# Altium integrated library Lattice Semiconductor ispMACH 4000B.IntLib: 180 symbols (part 3 of 28)
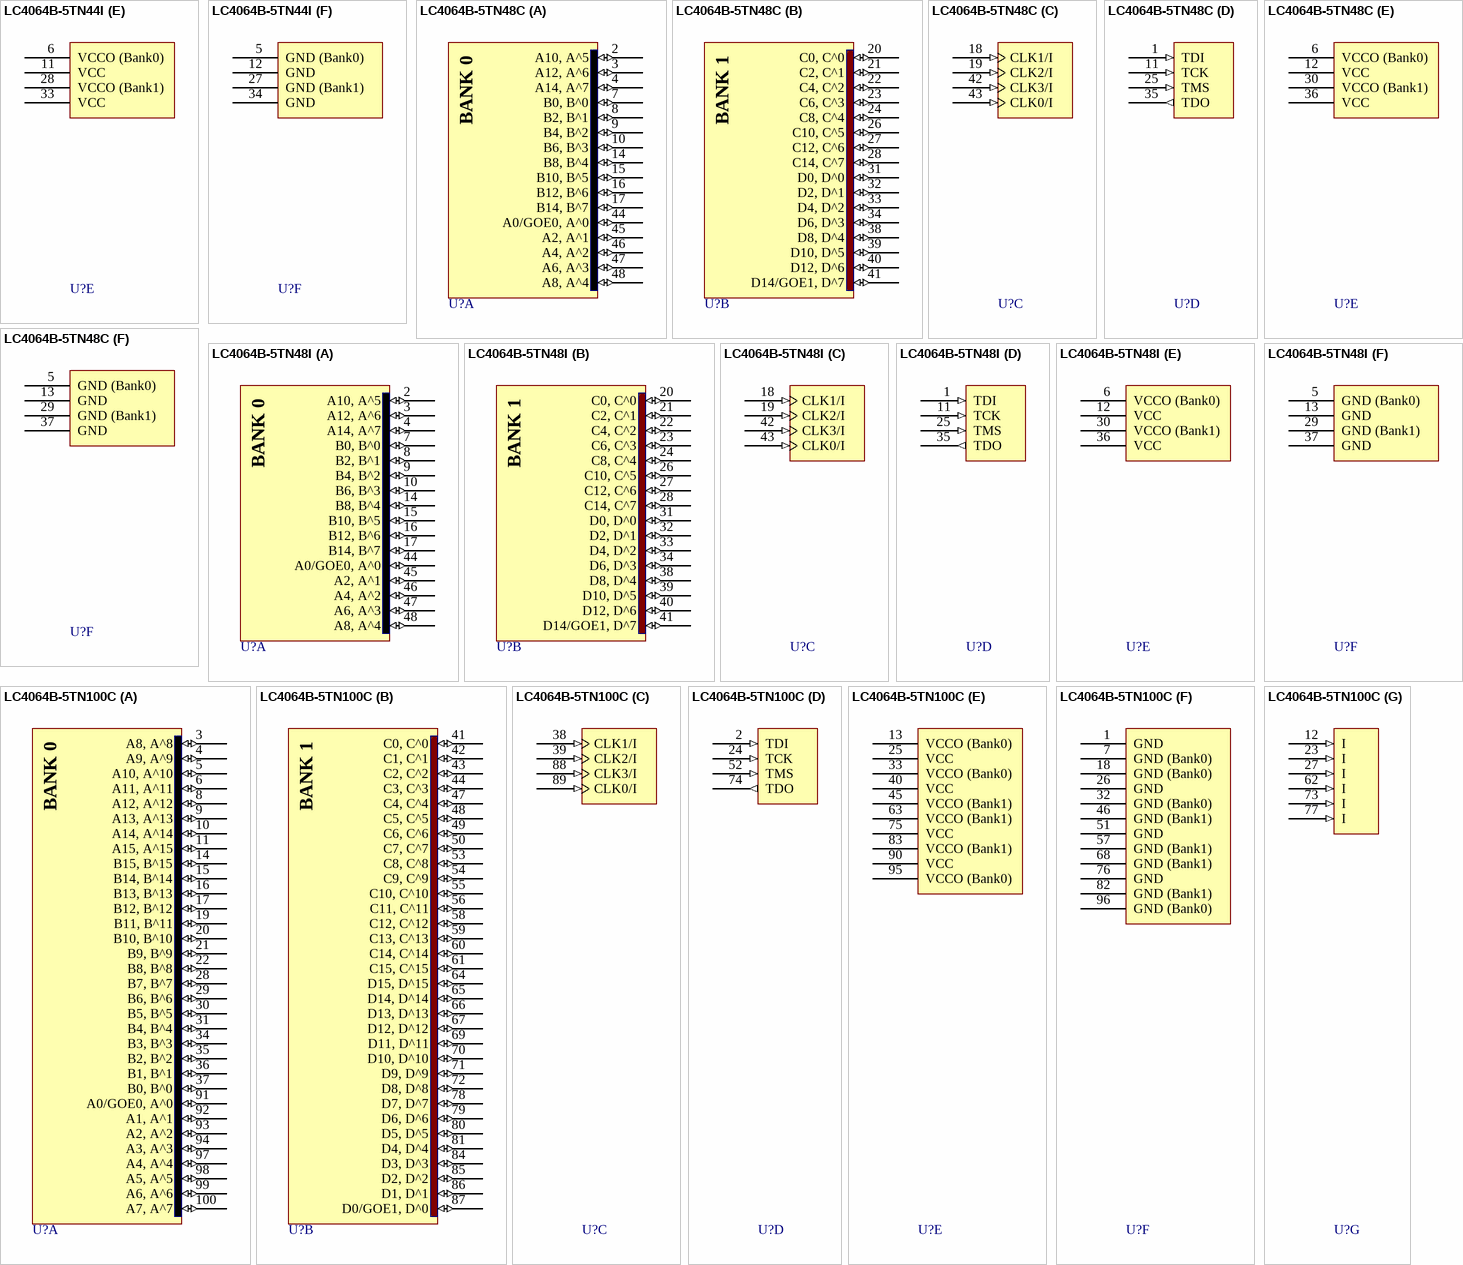
[diagram p106: symbols LC4064B-5TN44I to LC4064B-5TN100C]

## LC4064B-5TN44I
designator U?
ispMACH 4064 SuperFAST High Density PLD, 2.5 V, 30 User I/Os, 44-Pin TQFP, 5.0 ns, Industrial Grade, Pb-Free; DatasheetVersion: ver22.3, Mar-2007; PackageVersion: ver01.2 Feb-2007; PackageReference: TQFP44(1mm); PackageDescription: 44-Pin Thin Quad Flat Pack 1.0 mm Thick (TQFP44); ComponentLink1Description: Manufacturer URL; ComponentLink1URL: http://www.latticesemi.com/; ComponentLink2Description: Datasheet; ComponentLink2URL: http://www.latticesemi.com/dynamic/view_document.cfm?document_id=3646
footprint TQFP44(1mm)_N (Thin QFP, 44-Leads, Body 10x10mm, Pitch 0.8mm, IPC Medium Density)
footprint TQFP44(1mm)_L (Thin QFP, 44-Leads, Body 10x10mm, Pitch 0.8mm, IPC High Density)
footprint TQFP44(1mm)_M (Thin QFP, 44-Leads, Body 10x10mm, Pitch 0.8mm, IPC Low Density)
part A pins: 2 A10, A^5 (io) "General purpose I/O.", 3 A12, A^6 (io) "General purpose I/O.", 4 A14, A^7 (io) "General purpose I/O.", 7 B0, B^0 (io) "General purpose I/O.", 8 B2, B^1 (io) "General purpose I/O.", 9 B4, B^2 (io) "General purpose I/O.", 13 B8, B^4 (io) "General purpose I/O.", 14 B10, B^5 (io) "General purpose I/O.", 15 B12, B^6 (io) "General purpose I/O.", 16 B14, B^7 (io) "General purpose I/O.", 40 A0/GOE0, A^0 (io) "Either Global Output Enable Input or general I/O.", 41 A2, A^1 (io) "General purpose I/O.", 42 A4, A^2 (io) "General purpose I/O.", 43 A6, A^3 (io) "General purpose I/O.", 44 A8, A^4 (io) "General purpose I/O."
part B pins: 18 C0, C^0 (io) "General purpose I/O.", 19 C2, C^1 (io) "General purpose I/O.", 20 C4, C^2 (io) "General purpose I/O.", 21 C6, C^3 (io) "General purpose I/O.", 22 C8, C^4 (io) "General purpose I/O.", 24 C10, C^5 (io) "General purpose I/O.", 25 C12, C^6 (io) "General purpose I/O.", 26 C14, C^7 (io) "General purpose I/O.", 29 D0, D^0 (io) "General purpose I/O.", 30 D2, D^1 (io) "General purpose I/O.", 31 D4, D^2 (io) "General purpose I/O.", 35 D8, D^4 (io) "General purpose I/O.", 36 D10, D^5 (io) "General purpose I/O.", 37 D12, D^6 (io) "General purpose I/O.", 38 D14/GOE1, D^7 (io) "Either Global Output Enable Input or general I/O."
part C pins: 17 CLK2/I (in) "Either CLK input or input.", 39 CLK0/I (in) "Either CLK input or input."
part D pins: 1 TDI (in) "Test Data Input. Loads data into device using 1149.1 state machine.", 10 TCK (in) "Test Clock Input for 1149.1 state machine.", 23 TMS (in) "Test Mode Select Input to control 1149.1 state machine.", 32 TDO (out) "Test Data Output. Shifts data out of device using 1149.1."
part E pins: 6 VCCO (Bank0) (power) "Power supply pin for I/O bank.", 11 VCC (power) "Power supply for logic core and JTAG port.", 28 VCCO (Bank1) (power) "Power supply pin for I/O bank.", 33 VCC (power) "Power supply for logic core and JTAG port."
part F pins: 5 GND (Bank0) (power) "I/O Ground", 12 GND (power) "Ground", 27 GND (Bank1) (power) "I/O Ground", 34 GND (power) "Ground"
part A text: BANK 0
part B text: BANK 1

## LC4064B-5TN48C
designator U?
ispMACH 4064 SuperFAST High Density PLD, 2.5 V, 32 User I/Os, 48-Pin TQFP, 5.0 ns, Commercial Grade, Pb-Free; DatasheetVersion: ver22.3, Mar-2007; PackageVersion: ver02.6, Nov-2010; PackageReference: TQFP48(1mm); PackageDescription: 48-Pin Thin Quad Flat Pack 1.0 mm Thick (TQFP48); ComponentLink1Description: Manufacturer URL; ComponentLink1URL: http://www.latticesemi.com/; ComponentLink2Description: Datasheet; ComponentLink2URL: http://www.latticesemi.com/dynamic/view_document.cfm?document_id=3646
footprint TQFP48(1mm)_N (Thin QFP, 48-Leads, Body 7x7mm, Pitch 0.5mm, IPC Medium Density)
footprint TQFP48(1mm)_L (Thin QFP, 48-Leads, Body 7x7mm, Pitch 0.5mm, IPC High Density)
footprint TQFP48(1mm)_M (Thin QFP, 48-Leads, Body 7x7mm, Pitch 0.5mm, IPC Low Density)
part A pins: 2 A10, A^5 (io) "General purpose I/O.", 3 A12, A^6 (io) "General purpose I/O.", 4 A14, A^7 (io) "General purpose I/O.", 7 B0, B^0 (io) "General purpose I/O.", 8 B2, B^1 (io) "General purpose I/O.", 9 B4, B^2 (io) "General purpose I/O.", 10 B6, B^3 (io) "General purpose I/O.", 14 B8, B^4 (io) "General purpose I/O.", 15 B10, B^5 (io) "General purpose I/O.", 16 B12, B^6 (io) "General purpose I/O.", 17 B14, B^7 (io) "General purpose I/O.", 44 A0/GOE0, A^0 (io) "Either Global Output Enable Input or general I/O.", 45 A2, A^1 (io) "General purpose I/O.", 46 A4, A^2 (io) "General purpose I/O.", 47 A6, A^3 (io) "General purpose I/O.", 48 A8, A^4 (io) "General purpose I/O."
part B pins: 20 C0, C^0 (io) "General purpose I/O.", 21 C2, C^1 (io) "General purpose I/O.", 22 C4, C^2 (io) "General purpose I/O.", 23 C6, C^3 (io) "General purpose I/O.", 24 C8, C^4 (io) "General purpose I/O.", 26 C10, C^5 (io) "General purpose I/O.", 27 C12, C^6 (io) "General purpose I/O.", 28 C14, C^7 (io) "General purpose I/O.", 31 D0, D^0 (io) "General purpose I/O.", 32 D2, D^1 (io) "General purpose I/O.", 33 D4, D^2 (io) "General purpose I/O.", 34 D6, D^3 (io) "General purpose I/O.", 38 D8, D^4 (io) "General purpose I/O.", 39 D10, D^5 (io) "General purpose I/O.", 40 D12, D^6 (io) "General purpose I/O.", 41 D14/GOE1, D^7 (io) "Either Global Output Enable Input or general I/O."
part C pins: 18 CLK1/I (in) "Either CLK input or input.", 19 CLK2/I (in) "Either CLK input or input.", 42 CLK3/I (in) "Either CLK input or input.", 43 CLK0/I (in) "Either CLK input or input."
part D pins: 1 TDI (in) "Test Data Input. Loads data into device using 1149.1 state machine.", 11 TCK (in) "Test Clock Input for 1149.1 state machine.", 25 TMS (in) "Test Mode Select Input to control 1149.1 state machine.", 35 TDO (out) "Test Data Output. Shifts data out of device using 1149.1."
part E pins: 6 VCCO (Bank0) (power) "Power supply pin for I/O bank.", 12 VCC (power) "Power supply for logic core and JTAG port.", 30 VCCO (Bank1) (power) "Power supply pin for I/O bank.", 36 VCC (power) "Power supply for logic core and JTAG port."
part F pins: 5 GND (Bank0) (power) "I/O Ground", 13 GND (power) "Ground", 29 GND (Bank1) (power) "I/O Ground", 37 GND (power) "Ground"
part A text: BANK 0
part B text: BANK 1

## LC4064B-5TN48I
designator U?
ispMACH 4064 SuperFAST High Density PLD, 2.5 V, 32 User I/Os, 48-Pin TQFP, 5.0 ns, Industrial Grade, Pb-Free; DatasheetVersion: ver22.3, Mar-2007; PackageVersion: ver02.6, Nov-2010; PackageReference: TQFP48(1mm); PackageDescription: 48-Pin Thin Quad Flat Pack 1.0 mm Thick (TQFP48); ComponentLink1Description: Manufacturer URL; ComponentLink1URL: http://www.latticesemi.com/; ComponentLink2Description: Datasheet; ComponentLink2URL: http://www.latticesemi.com/dynamic/view_document.cfm?document_id=3646
footprint TQFP48(1mm)_N (Thin QFP, 48-Leads, Body 7x7mm, Pitch 0.5mm, IPC Medium Density)
footprint TQFP48(1mm)_L (Thin QFP, 48-Leads, Body 7x7mm, Pitch 0.5mm, IPC High Density)
footprint TQFP48(1mm)_M (Thin QFP, 48-Leads, Body 7x7mm, Pitch 0.5mm, IPC Low Density)
part A pins: 2 A10, A^5 (io) "General purpose I/O.", 3 A12, A^6 (io) "General purpose I/O.", 4 A14, A^7 (io) "General purpose I/O.", 7 B0, B^0 (io) "General purpose I/O.", 8 B2, B^1 (io) "General purpose I/O.", 9 B4, B^2 (io) "General purpose I/O.", 10 B6, B^3 (io) "General purpose I/O.", 14 B8, B^4 (io) "General purpose I/O.", 15 B10, B^5 (io) "General purpose I/O.", 16 B12, B^6 (io) "General purpose I/O.", 17 B14, B^7 (io) "General purpose I/O.", 44 A0/GOE0, A^0 (io) "Either Global Output Enable Input or general I/O.", 45 A2, A^1 (io) "General purpose I/O.", 46 A4, A^2 (io) "General purpose I/O.", 47 A6, A^3 (io) "General purpose I/O.", 48 A8, A^4 (io) "General purpose I/O."
part B pins: 20 C0, C^0 (io) "General purpose I/O.", 21 C2, C^1 (io) "General purpose I/O.", 22 C4, C^2 (io) "General purpose I/O.", 23 C6, C^3 (io) "General purpose I/O.", 24 C8, C^4 (io) "General purpose I/O.", 26 C10, C^5 (io) "General purpose I/O.", 27 C12, C^6 (io) "General purpose I/O.", 28 C14, C^7 (io) "General purpose I/O.", 31 D0, D^0 (io) "General purpose I/O.", 32 D2, D^1 (io) "General purpose I/O.", 33 D4, D^2 (io) "General purpose I/O.", 34 D6, D^3 (io) "General purpose I/O.", 38 D8, D^4 (io) "General purpose I/O.", 39 D10, D^5 (io) "General purpose I/O.", 40 D12, D^6 (io) "General purpose I/O.", 41 D14/GOE1, D^7 (io) "Either Global Output Enable Input or general I/O."
part C pins: 18 CLK1/I (in) "Either CLK input or input.", 19 CLK2/I (in) "Either CLK input or input.", 42 CLK3/I (in) "Either CLK input or input.", 43 CLK0/I (in) "Either CLK input or input."
part D pins: 1 TDI (in) "Test Data Input. Loads data into device using 1149.1 state machine.", 11 TCK (in) "Test Clock Input for 1149.1 state machine.", 25 TMS (in) "Test Mode Select Input to control 1149.1 state machine.", 35 TDO (out) "Test Data Output. Shifts data out of device using 1149.1."
part E pins: 6 VCCO (Bank0) (power) "Power supply pin for I/O bank.", 12 VCC (power) "Power supply for logic core and JTAG port.", 30 VCCO (Bank1) (power) "Power supply pin for I/O bank.", 36 VCC (power) "Power supply for logic core and JTAG port."
part F pins: 5 GND (Bank0) (power) "I/O Ground", 13 GND (power) "Ground", 29 GND (Bank1) (power) "I/O Ground", 37 GND (power) "Ground"
part A text: BANK 0
part B text: BANK 1

## LC4064B-5TN100C
designator U?
ispMACH 4064 SuperFAST High Density PLD, 2.5 V, 64 User I/Os, 100-Pin TQFP, 5.0 ns, Commercial Grade, Pb-Free; DatasheetVersion: ver22.3, Mar-2007; PackageVersion: ver02.8, Jul-2011; PackageReference: TQFP100; PackageDescription: 100-Pin Thin Quad Flat Pack (TQFP100); Code_JEDEC: MS-026-BED; ComponentLink1Description: Manufacturer URL; ComponentLink1URL: http://www.latticesemi.com/; ComponentLink2Description: Datasheet; ComponentLink2URL: http://www.latticesemi.com/dynamic/view_document.cfm?document_id=3646
footprint TQFP100_N (Thin QFP, 100-Leads, Body 14x14mm, Pitch 0.5mm, IPC Medium Density)
footprint TQFP100_L (Thin QFP, 100-Leads, Body 14x14mm, Pitch 0.5mm, IPC High Density)
footprint TQFP100_M (Thin QFP, 100-Leads, Body 14x14mm, Pitch 0.5mm, IPC Low Density)
part A pins: 3 A8, A^8 (io) "General purpose I/O.", 4 A9, A^9 (io) "General purpose I/O.", 5 A10, A^10 (io) "General purpose I/O.", 6 A11, A^11 (io) "General purpose I/O.", 8 A12, A^12 (io) "General purpose I/O.", 9 A13, A^13 (io) "General purpose I/O.", 10 A14, A^14 (io) "General purpose I/O.", 11 A15, A^15 (io) "General purpose I/O.", 14 B15, B^15 (io) "General purpose I/O.", 15 B14, B^14 (io) "General purpose I/O.", 16 B13, B^13 (io) "General purpose I/O.", 17 B12, B^12 (io) "General purpose I/O.", 19 B11, B^11 (io) "General purpose I/O.", 20 B10, B^10 (io) "General purpose I/O.", 21 B9, B^9 (io) "General purpose I/O.", 22 B8, B^8 (io) "General purpose I/O.", 28 B7, B^7 (io) "General purpose I/O.", 29 B6, B^6 (io) "General purpose I/O.", 30 B5, B^5 (io) "General purpose I/O.", 31 B4, B^4 (io) "General purpose I/O.", 34 B3, B^3 (io) "General purpose I/O.", 35 B2, B^2 (io) "General purpose I/O.", 36 B1, B^1 (io) "General purpose I/O.", 37 B0, B^0 (io) "General purpose I/O.", 91 A0/GOE0, A^0 (io) "Either Global Output Enable Input or general I/O.", 92 A1, A^1 (io) "General purpose I/O.", 93 A2, A^2 (io) "General purpose I/O.", 94 A3, A^3 (io) "General purpose I/O.", 97 A4, A^4 (io) "General purpose I/O.", 98 A5, A^5 (io) "General purpose I/O.", 99 A6, A^6 (io) "General purpose I/O.", 100 A7, A^7 (io) "General purpose I/O."
part B pins: 41 C0, C^0 (io) "General purpose I/O.", 42 C1, C^1 (io) "General purpose I/O.", 43 C2, C^2 (io) "General purpose I/O.", 44 C3, C^3 (io) "General purpose I/O.", 47 C4, C^4 (io) "General purpose I/O.", 48 C5, C^5 (io) "General purpose I/O.", 49 C6, C^6 (io) "General purpose I/O.", 50 C7, C^7 (io) "General purpose I/O.", 53 C8, C^8 (io) "General purpose I/O.", 54 C9, C^9 (io) "General purpose I/O.", 55 C10, C^10 (io) "General purpose I/O.", 56 C11, C^11 (io) "General purpose I/O.", 58 C12, C^12 (io) "General purpose I/O.", 59 C13, C^13 (io) "General purpose I/O.", 60 C14, C^14 (io) "General purpose I/O.", 61 C15, C^15 (io) "General purpose I/O.", 64 D15, D^15 (io) "General purpose I/O.", 65 D14, D^14 (io) "General purpose I/O.", 66 D13, D^13 (io) "General purpose I/O.", 67 D12, D^12 (io) "General purpose I/O.", 69 D11, D^11 (io) "General purpose I/O.", 70 D10, D^10 (io) "General purpose I/O.", 71 D9, D^9 (io) "General purpose I/O.", 72 D8, D^8 (io) "General purpose I/O.", 78 D7, D^7 (io) "General purpose I/O.", 79 D6, D^6 (io) "General purpose I/O.", 80 D5, D^5 (io) "General purpose I/O.", 81 D4, D^4 (io) "General purpose I/O.", 84 D3, D^3 (io) "General purpose I/O.", 85 D2, D^2 (io) "General purpose I/O.", 86 D1, D^1 (io) "General purpose I/O.", 87 D0/GOE1, D^0 (io) "Either Global Output Enable Input or general I/O."
part C pins: 38 CLK1/I (in) "Either CLK input or input.", 39 CLK2/I (in) "Either CLK input or input.", 88 CLK3/I (in) "Either CLK input or input.", 89 CLK0/I (in) "Either CLK input or input."
part D pins: 2 TDI (in) "Test Data Input. Loads data into device using 1149.1 state machine.", 24 TCK (in) "Test Clock Input for 1149.1 state machine.", 52 TMS (in) "Test Mode Select Input to control 1149.1 state machine.", 74 TDO (out) "Test Data Output. Shifts data out of device using 1149.1."
part E pins: 13 VCCO (Bank0) (power) "Power supply pin for I/O bank.", 25 VCC (power) "Power supply for logic core and JTAG port.", 33 VCCO (Bank0) (power) "Power supply pin for I/O bank.", 40 VCC (power) "Power supply for logic core and JTAG port.", 45 VCCO (Bank1) (power) "Power supply pin for I/O bank.", 63 VCCO (Bank1) (power) "Power supply pin for I/O bank.", 75 VCC (power) "Power supply for logic core and JTAG port.", 83 VCCO (Bank1) (power) "Power supply pin for I/O bank.", 90 VCC (power) "Power supply for logic core and JTAG port.", 95 VCCO (Bank0) (power) "Power supply pin for I/O bank."
part F pins: 1 GND (power) "Ground", 7 GND (Bank0) (power) "I/O Ground", 18 GND (Bank0) (power) "I/O Ground", 26 GND (power) "Ground", 32 GND (Bank0) (power) "I/O Ground", 46 GND (Bank1) (power) "I/O Ground", 51 GND (power) "Ground", 57 GND (Bank1) (power) "I/O Ground", 68 GND (Bank1) (power) "I/O Ground", 76 GND (power) "Ground", 82 GND (Bank1) (power) "I/O Ground", 96 GND (Bank0) (power) "I/O Ground"
part G pins: 12 I (in) "Input Signal Pin.", 23 I (in) "Input Signal Pin.", 27 I (in) "Input Signal Pin.", 62 I (in) "Input Signal Pin.", 73 I (in) "Input Signal Pin.", 77 I (in) "Input Signal Pin."
part A text: BANK 0
part B text: BANK 1

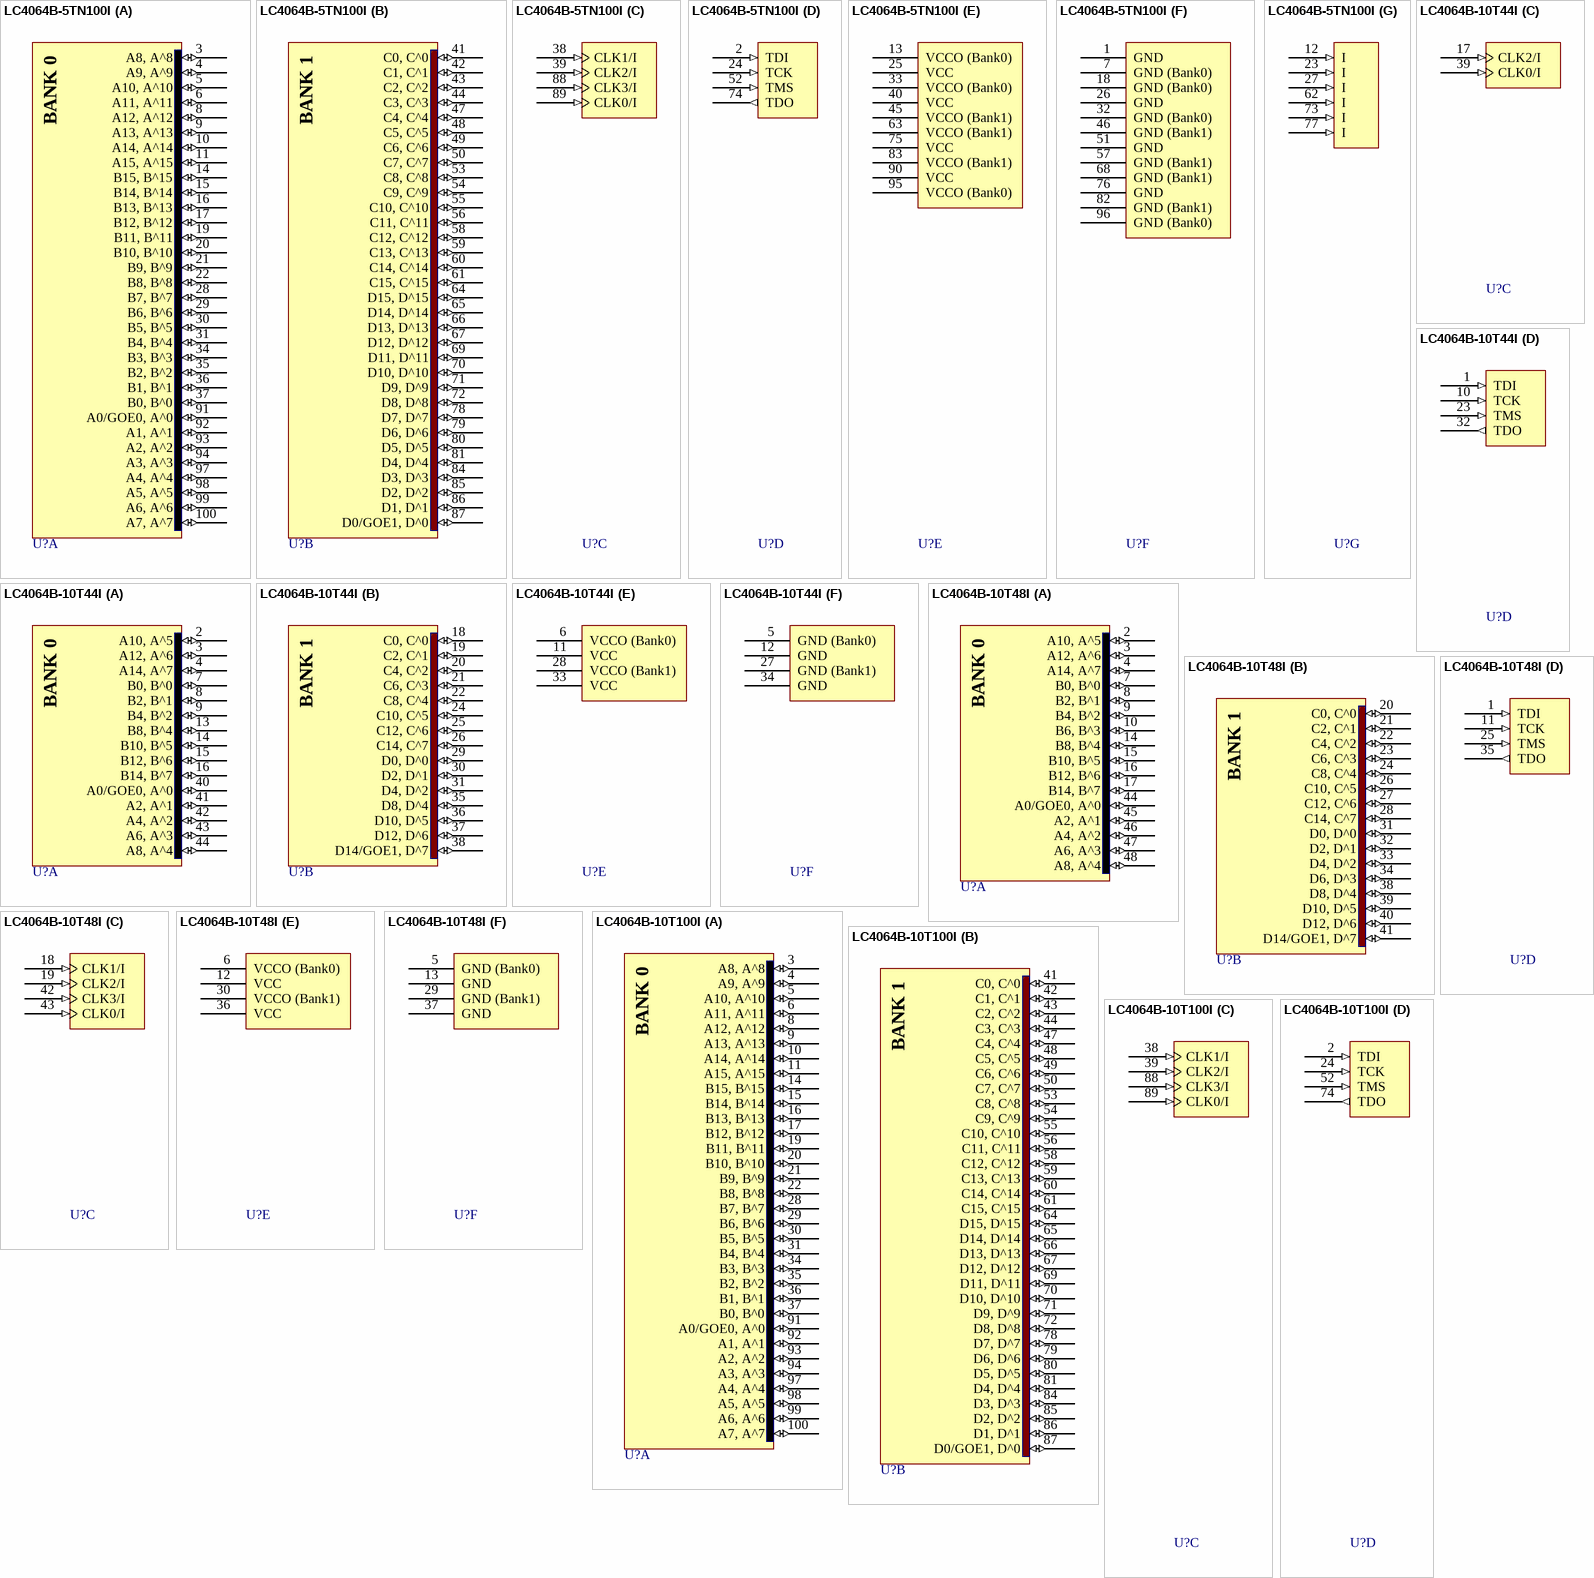
[diagram p8: symbols LC4064B-5TN100I to LC4064B-10T100I]

## LC4064B-5TN100I
designator U?
ispMACH 4064 SuperFAST High Density PLD, 2.5 V, 64 User I/Os, 100-Pin TQFP, 5.0 ns, Industrial Grade, Pb-Free; DatasheetVersion: ver22.3, Mar-2007; PackageVersion: ver02.8, Jul-2011; PackageReference: TQFP100; PackageDescription: 100-Pin Thin Quad Flat Pack (TQFP100); Code_JEDEC: MS-026-BED; ComponentLink1Description: Manufacturer URL; ComponentLink1URL: http://www.latticesemi.com/; ComponentLink2Description: Datasheet; ComponentLink2URL: http://www.latticesemi.com/dynamic/view_document.cfm?document_id=3646
footprint TQFP100_N (Thin QFP, 100-Leads, Body 14x14mm, Pitch 0.5mm, IPC Medium Density)
footprint TQFP100_L (Thin QFP, 100-Leads, Body 14x14mm, Pitch 0.5mm, IPC High Density)
footprint TQFP100_M (Thin QFP, 100-Leads, Body 14x14mm, Pitch 0.5mm, IPC Low Density)
part A pins: 3 A8, A^8 (io) "General purpose I/O.", 4 A9, A^9 (io) "General purpose I/O.", 5 A10, A^10 (io) "General purpose I/O.", 6 A11, A^11 (io) "General purpose I/O.", 8 A12, A^12 (io) "General purpose I/O.", 9 A13, A^13 (io) "General purpose I/O.", 10 A14, A^14 (io) "General purpose I/O.", 11 A15, A^15 (io) "General purpose I/O.", 14 B15, B^15 (io) "General purpose I/O.", 15 B14, B^14 (io) "General purpose I/O.", 16 B13, B^13 (io) "General purpose I/O.", 17 B12, B^12 (io) "General purpose I/O.", 19 B11, B^11 (io) "General purpose I/O.", 20 B10, B^10 (io) "General purpose I/O.", 21 B9, B^9 (io) "General purpose I/O.", 22 B8, B^8 (io) "General purpose I/O.", 28 B7, B^7 (io) "General purpose I/O.", 29 B6, B^6 (io) "General purpose I/O.", 30 B5, B^5 (io) "General purpose I/O.", 31 B4, B^4 (io) "General purpose I/O.", 34 B3, B^3 (io) "General purpose I/O.", 35 B2, B^2 (io) "General purpose I/O.", 36 B1, B^1 (io) "General purpose I/O.", 37 B0, B^0 (io) "General purpose I/O.", 91 A0/GOE0, A^0 (io) "Either Global Output Enable Input or general I/O.", 92 A1, A^1 (io) "General purpose I/O.", 93 A2, A^2 (io) "General purpose I/O.", 94 A3, A^3 (io) "General purpose I/O.", 97 A4, A^4 (io) "General purpose I/O.", 98 A5, A^5 (io) "General purpose I/O.", 99 A6, A^6 (io) "General purpose I/O.", 100 A7, A^7 (io) "General purpose I/O."
part B pins: 41 C0, C^0 (io) "General purpose I/O.", 42 C1, C^1 (io) "General purpose I/O.", 43 C2, C^2 (io) "General purpose I/O.", 44 C3, C^3 (io) "General purpose I/O.", 47 C4, C^4 (io) "General purpose I/O.", 48 C5, C^5 (io) "General purpose I/O.", 49 C6, C^6 (io) "General purpose I/O.", 50 C7, C^7 (io) "General purpose I/O.", 53 C8, C^8 (io) "General purpose I/O.", 54 C9, C^9 (io) "General purpose I/O.", 55 C10, C^10 (io) "General purpose I/O.", 56 C11, C^11 (io) "General purpose I/O.", 58 C12, C^12 (io) "General purpose I/O.", 59 C13, C^13 (io) "General purpose I/O.", 60 C14, C^14 (io) "General purpose I/O.", 61 C15, C^15 (io) "General purpose I/O.", 64 D15, D^15 (io) "General purpose I/O.", 65 D14, D^14 (io) "General purpose I/O.", 66 D13, D^13 (io) "General purpose I/O.", 67 D12, D^12 (io) "General purpose I/O.", 69 D11, D^11 (io) "General purpose I/O.", 70 D10, D^10 (io) "General purpose I/O.", 71 D9, D^9 (io) "General purpose I/O.", 72 D8, D^8 (io) "General purpose I/O.", 78 D7, D^7 (io) "General purpose I/O.", 79 D6, D^6 (io) "General purpose I/O.", 80 D5, D^5 (io) "General purpose I/O.", 81 D4, D^4 (io) "General purpose I/O.", 84 D3, D^3 (io) "General purpose I/O.", 85 D2, D^2 (io) "General purpose I/O.", 86 D1, D^1 (io) "General purpose I/O.", 87 D0/GOE1, D^0 (io) "Either Global Output Enable Input or general I/O."
part C pins: 38 CLK1/I (in) "Either CLK input or input.", 39 CLK2/I (in) "Either CLK input or input.", 88 CLK3/I (in) "Either CLK input or input.", 89 CLK0/I (in) "Either CLK input or input."
part D pins: 2 TDI (in) "Test Data Input. Loads data into device using 1149.1 state machine.", 24 TCK (in) "Test Clock Input for 1149.1 state machine.", 52 TMS (in) "Test Mode Select Input to control 1149.1 state machine.", 74 TDO (out) "Test Data Output. Shifts data out of device using 1149.1."
part E pins: 13 VCCO (Bank0) (power) "Power supply pin for I/O bank.", 25 VCC (power) "Power supply for logic core and JTAG port.", 33 VCCO (Bank0) (power) "Power supply pin for I/O bank.", 40 VCC (power) "Power supply for logic core and JTAG port.", 45 VCCO (Bank1) (power) "Power supply pin for I/O bank.", 63 VCCO (Bank1) (power) "Power supply pin for I/O bank.", 75 VCC (power) "Power supply for logic core and JTAG port.", 83 VCCO (Bank1) (power) "Power supply pin for I/O bank.", 90 VCC (power) "Power supply for logic core and JTAG port.", 95 VCCO (Bank0) (power) "Power supply pin for I/O bank."
part F pins: 1 GND (power) "Ground", 7 GND (Bank0) (power) "I/O Ground", 18 GND (Bank0) (power) "I/O Ground", 26 GND (power) "Ground", 32 GND (Bank0) (power) "I/O Ground", 46 GND (Bank1) (power) "I/O Ground", 51 GND (power) "Ground", 57 GND (Bank1) (power) "I/O Ground", 68 GND (Bank1) (power) "I/O Ground", 76 GND (power) "Ground", 82 GND (Bank1) (power) "I/O Ground", 96 GND (Bank0) (power) "I/O Ground"
part G pins: 12 I (in) "Input Signal Pin.", 23 I (in) "Input Signal Pin.", 27 I (in) "Input Signal Pin.", 62 I (in) "Input Signal Pin.", 73 I (in) "Input Signal Pin.", 77 I (in) "Input Signal Pin."
part A text: BANK 0
part B text: BANK 1

## LC4064B-10T44I
designator U?
ispMACH 4064 SuperFAST High Density PLD, 2.5 V, 30 User I/Os, 44-Pin TQFP, 10 ns, Industrial Grade; DatasheetVersion: ver22.3, Mar-2007; PackageVersion: ver01.2 Feb-2007; PackageReference: TQFP44(1mm); PackageDescription: 44-Pin Thin Quad Flat Pack 1.0 mm Thick (TQFP44); ComponentLink1Description: Manufacturer URL; ComponentLink1URL: http://www.latticesemi.com/; ComponentLink2Description: Datasheet; ComponentLink2URL: http://www.latticesemi.com/dynamic/view_document.cfm?document_id=3646
footprint TQFP44(1mm)_N (Thin QFP, 44-Leads, Body 10x10mm, Pitch 0.8mm, IPC Medium Density)
footprint TQFP44(1mm)_L (Thin QFP, 44-Leads, Body 10x10mm, Pitch 0.8mm, IPC High Density)
footprint TQFP44(1mm)_M (Thin QFP, 44-Leads, Body 10x10mm, Pitch 0.8mm, IPC Low Density)
part A pins: 2 A10, A^5 (io) "General purpose I/O.", 3 A12, A^6 (io) "General purpose I/O.", 4 A14, A^7 (io) "General purpose I/O.", 7 B0, B^0 (io) "General purpose I/O.", 8 B2, B^1 (io) "General purpose I/O.", 9 B4, B^2 (io) "General purpose I/O.", 13 B8, B^4 (io) "General purpose I/O.", 14 B10, B^5 (io) "General purpose I/O.", 15 B12, B^6 (io) "General purpose I/O.", 16 B14, B^7 (io) "General purpose I/O.", 40 A0/GOE0, A^0 (io) "Either Global Output Enable Input or general I/O.", 41 A2, A^1 (io) "General purpose I/O.", 42 A4, A^2 (io) "General purpose I/O.", 43 A6, A^3 (io) "General purpose I/O.", 44 A8, A^4 (io) "General purpose I/O."
part B pins: 18 C0, C^0 (io) "General purpose I/O.", 19 C2, C^1 (io) "General purpose I/O.", 20 C4, C^2 (io) "General purpose I/O.", 21 C6, C^3 (io) "General purpose I/O.", 22 C8, C^4 (io) "General purpose I/O.", 24 C10, C^5 (io) "General purpose I/O.", 25 C12, C^6 (io) "General purpose I/O.", 26 C14, C^7 (io) "General purpose I/O.", 29 D0, D^0 (io) "General purpose I/O.", 30 D2, D^1 (io) "General purpose I/O.", 31 D4, D^2 (io) "General purpose I/O.", 35 D8, D^4 (io) "General purpose I/O.", 36 D10, D^5 (io) "General purpose I/O.", 37 D12, D^6 (io) "General purpose I/O.", 38 D14/GOE1, D^7 (io) "Either Global Output Enable Input or general I/O."
part C pins: 17 CLK2/I (in) "Either CLK input or input.", 39 CLK0/I (in) "Either CLK input or input."
part D pins: 1 TDI (in) "Test Data Input. Loads data into device using 1149.1 state machine.", 10 TCK (in) "Test Clock Input for 1149.1 state machine.", 23 TMS (in) "Test Mode Select Input to control 1149.1 state machine.", 32 TDO (out) "Test Data Output. Shifts data out of device using 1149.1."
part E pins: 6 VCCO (Bank0) (power) "Power supply pin for I/O bank.", 11 VCC (power) "Power supply for logic core and JTAG port.", 28 VCCO (Bank1) (power) "Power supply pin for I/O bank.", 33 VCC (power) "Power supply for logic core and JTAG port."
part F pins: 5 GND (Bank0) (power) "I/O Ground", 12 GND (power) "Ground", 27 GND (Bank1) (power) "I/O Ground", 34 GND (power) "Ground"
part A text: BANK 0
part B text: BANK 1

## LC4064B-10T48I
designator U?
ispMACH 4064 SuperFAST High Density PLD, 2.5 V, 32 User I/Os, 48-Pin TQFP, 10 ns, Industrial Grade; DatasheetVersion: ver22.3, Mar-2007; PackageVersion: ver02.6, Nov-2010; PackageReference: TQFP48(1mm); PackageDescription: 48-Pin Thin Quad Flat Pack 1.0 mm Thick (TQFP48); ComponentLink1Description: Manufacturer URL; ComponentLink1URL: http://www.latticesemi.com/; ComponentLink2Description: Datasheet; ComponentLink2URL: http://www.latticesemi.com/dynamic/view_document.cfm?document_id=3646
footprint TQFP48(1mm)_N (Thin QFP, 48-Leads, Body 7x7mm, Pitch 0.5mm, IPC Medium Density)
footprint TQFP48(1mm)_L (Thin QFP, 48-Leads, Body 7x7mm, Pitch 0.5mm, IPC High Density)
footprint TQFP48(1mm)_M (Thin QFP, 48-Leads, Body 7x7mm, Pitch 0.5mm, IPC Low Density)
part A pins: 2 A10, A^5 (io) "General purpose I/O.", 3 A12, A^6 (io) "General purpose I/O.", 4 A14, A^7 (io) "General purpose I/O.", 7 B0, B^0 (io) "General purpose I/O.", 8 B2, B^1 (io) "General purpose I/O.", 9 B4, B^2 (io) "General purpose I/O.", 10 B6, B^3 (io) "General purpose I/O.", 14 B8, B^4 (io) "General purpose I/O.", 15 B10, B^5 (io) "General purpose I/O.", 16 B12, B^6 (io) "General purpose I/O.", 17 B14, B^7 (io) "General purpose I/O.", 44 A0/GOE0, A^0 (io) "Either Global Output Enable Input or general I/O.", 45 A2, A^1 (io) "General purpose I/O.", 46 A4, A^2 (io) "General purpose I/O.", 47 A6, A^3 (io) "General purpose I/O.", 48 A8, A^4 (io) "General purpose I/O."
part B pins: 20 C0, C^0 (io) "General purpose I/O.", 21 C2, C^1 (io) "General purpose I/O.", 22 C4, C^2 (io) "General purpose I/O.", 23 C6, C^3 (io) "General purpose I/O.", 24 C8, C^4 (io) "General purpose I/O.", 26 C10, C^5 (io) "General purpose I/O.", 27 C12, C^6 (io) "General purpose I/O.", 28 C14, C^7 (io) "General purpose I/O.", 31 D0, D^0 (io) "General purpose I/O.", 32 D2, D^1 (io) "General purpose I/O.", 33 D4, D^2 (io) "General purpose I/O.", 34 D6, D^3 (io) "General purpose I/O.", 38 D8, D^4 (io) "General purpose I/O.", 39 D10, D^5 (io) "General purpose I/O.", 40 D12, D^6 (io) "General purpose I/O.", 41 D14/GOE1, D^7 (io) "Either Global Output Enable Input or general I/O."
part C pins: 18 CLK1/I (in) "Either CLK input or input.", 19 CLK2/I (in) "Either CLK input or input.", 42 CLK3/I (in) "Either CLK input or input.", 43 CLK0/I (in) "Either CLK input or input."
part D pins: 1 TDI (in) "Test Data Input. Loads data into device using 1149.1 state machine.", 11 TCK (in) "Test Clock Input for 1149.1 state machine.", 25 TMS (in) "Test Mode Select Input to control 1149.1 state machine.", 35 TDO (out) "Test Data Output. Shifts data out of device using 1149.1."
part E pins: 6 VCCO (Bank0) (power) "Power supply pin for I/O bank.", 12 VCC (power) "Power supply for logic core and JTAG port.", 30 VCCO (Bank1) (power) "Power supply pin for I/O bank.", 36 VCC (power) "Power supply for logic core and JTAG port."
part F pins: 5 GND (Bank0) (power) "I/O Ground", 13 GND (power) "Ground", 29 GND (Bank1) (power) "I/O Ground", 37 GND (power) "Ground"
part A text: BANK 0
part B text: BANK 1

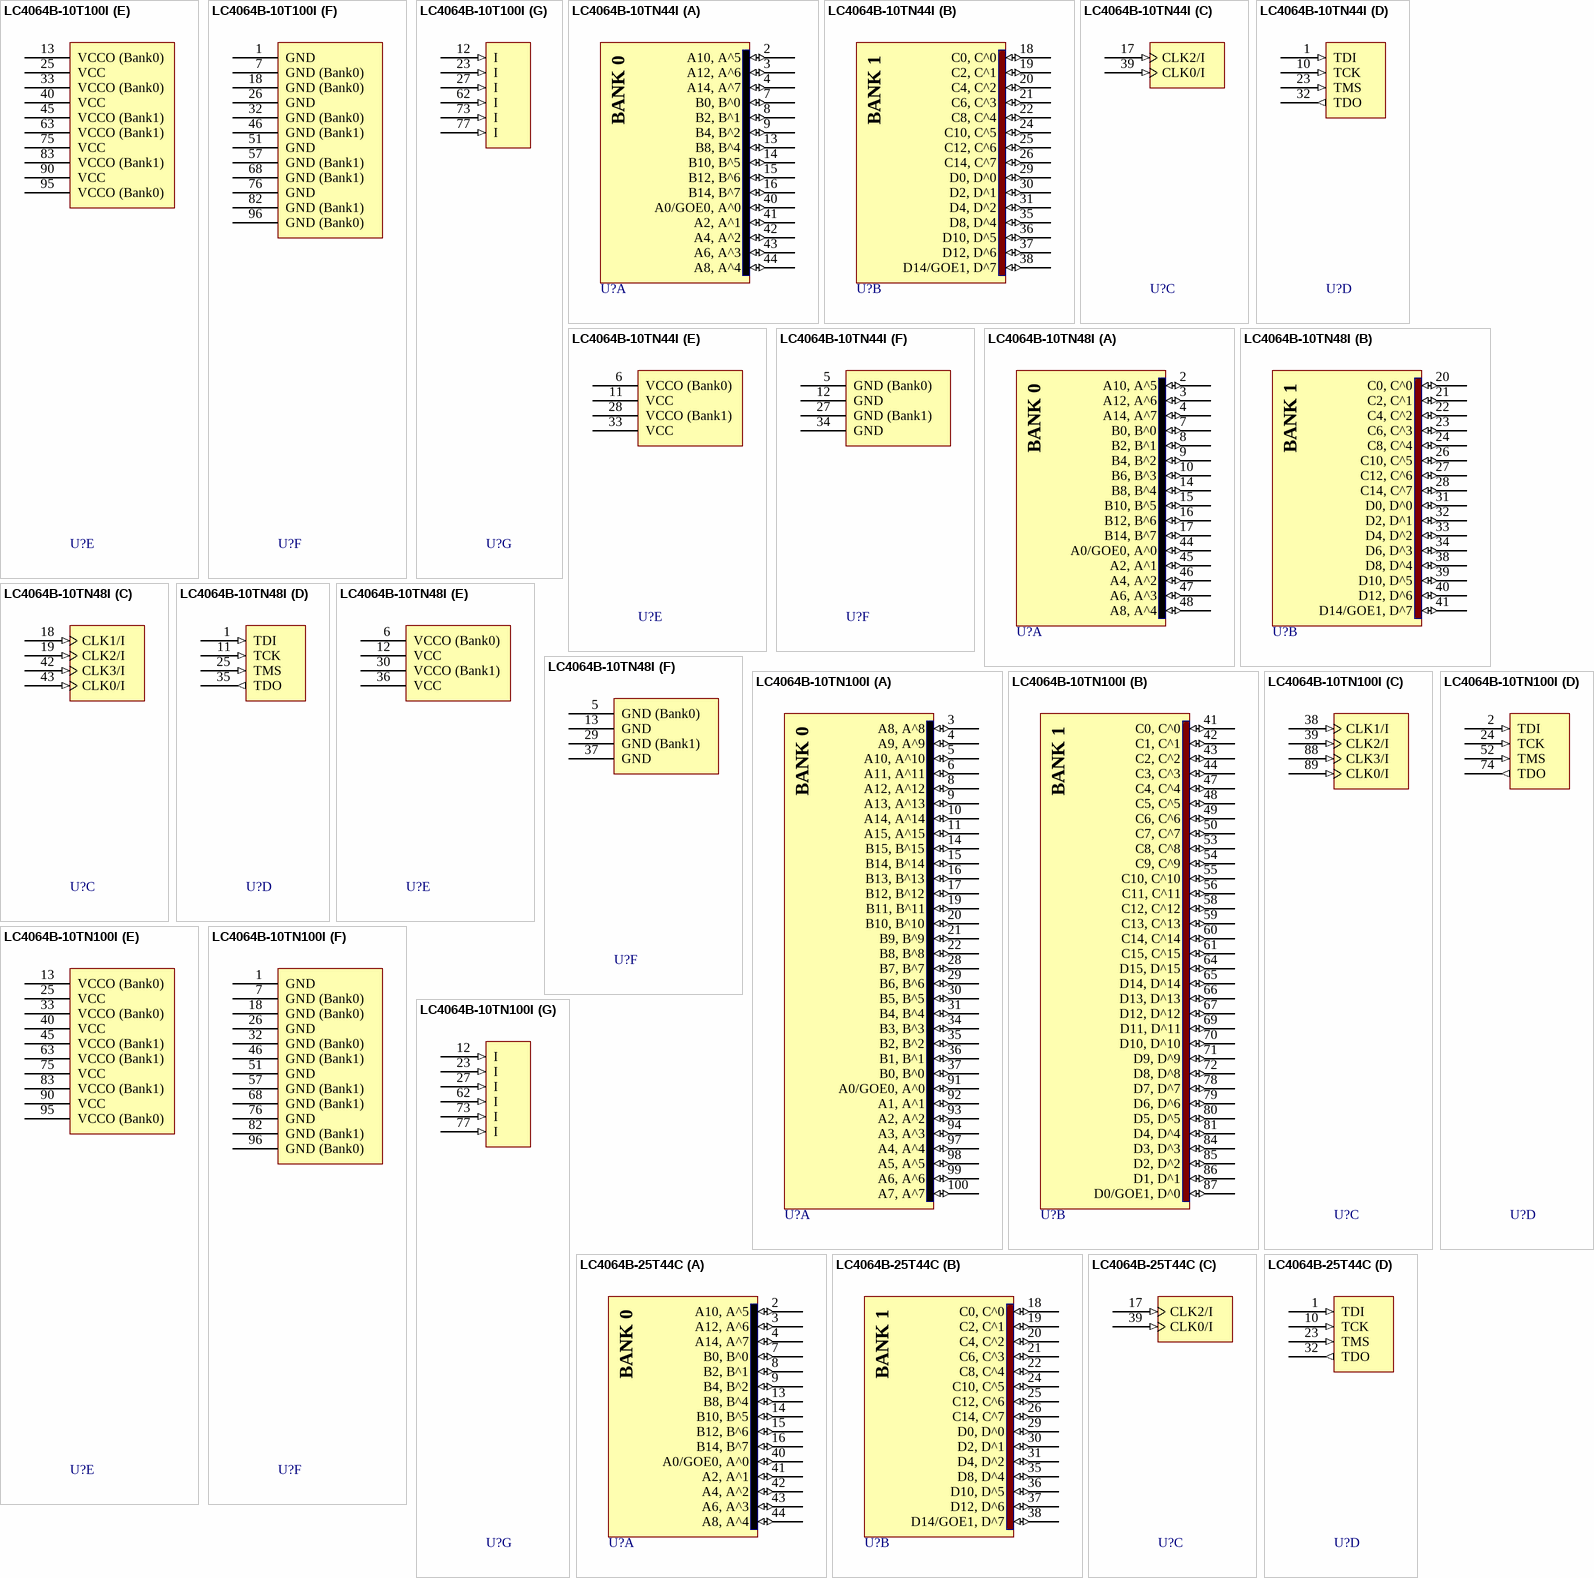
[diagram p9: symbols LC4064B-10T100I to LC4064B-25T44C]

## LC4064B-10T100I
designator U?
ispMACH 4064 SuperFAST High Density PLD, 2.5 V, 64 User I/Os, 100-Pin TQFP, 10 ns, Industrial Grade; DatasheetVersion: ver22.3, Mar-2007; PackageVersion: ver02.8, Jul-2011; PackageReference: TQFP100; PackageDescription: 100-Pin Thin Quad Flat Pack (TQFP100); Code_JEDEC: MS-026-BED; ComponentLink1Description: Manufacturer URL; ComponentLink1URL: http://www.latticesemi.com/; ComponentLink2Description: Datasheet; ComponentLink2URL: http://www.latticesemi.com/dynamic/view_document.cfm?document_id=3646
footprint TQFP100_N (Thin QFP, 100-Leads, Body 14x14mm, Pitch 0.5mm, IPC Medium Density)
footprint TQFP100_L (Thin QFP, 100-Leads, Body 14x14mm, Pitch 0.5mm, IPC High Density)
footprint TQFP100_M (Thin QFP, 100-Leads, Body 14x14mm, Pitch 0.5mm, IPC Low Density)
part A pins: 3 A8, A^8 (io) "General purpose I/O.", 4 A9, A^9 (io) "General purpose I/O.", 5 A10, A^10 (io) "General purpose I/O.", 6 A11, A^11 (io) "General purpose I/O.", 8 A12, A^12 (io) "General purpose I/O.", 9 A13, A^13 (io) "General purpose I/O.", 10 A14, A^14 (io) "General purpose I/O.", 11 A15, A^15 (io) "General purpose I/O.", 14 B15, B^15 (io) "General purpose I/O.", 15 B14, B^14 (io) "General purpose I/O.", 16 B13, B^13 (io) "General purpose I/O.", 17 B12, B^12 (io) "General purpose I/O.", 19 B11, B^11 (io) "General purpose I/O.", 20 B10, B^10 (io) "General purpose I/O.", 21 B9, B^9 (io) "General purpose I/O.", 22 B8, B^8 (io) "General purpose I/O.", 28 B7, B^7 (io) "General purpose I/O.", 29 B6, B^6 (io) "General purpose I/O.", 30 B5, B^5 (io) "General purpose I/O.", 31 B4, B^4 (io) "General purpose I/O.", 34 B3, B^3 (io) "General purpose I/O.", 35 B2, B^2 (io) "General purpose I/O.", 36 B1, B^1 (io) "General purpose I/O.", 37 B0, B^0 (io) "General purpose I/O.", 91 A0/GOE0, A^0 (io) "Either Global Output Enable Input or general I/O.", 92 A1, A^1 (io) "General purpose I/O.", 93 A2, A^2 (io) "General purpose I/O.", 94 A3, A^3 (io) "General purpose I/O.", 97 A4, A^4 (io) "General purpose I/O.", 98 A5, A^5 (io) "General purpose I/O.", 99 A6, A^6 (io) "General purpose I/O.", 100 A7, A^7 (io) "General purpose I/O."
part B pins: 41 C0, C^0 (io) "General purpose I/O.", 42 C1, C^1 (io) "General purpose I/O.", 43 C2, C^2 (io) "General purpose I/O.", 44 C3, C^3 (io) "General purpose I/O.", 47 C4, C^4 (io) "General purpose I/O.", 48 C5, C^5 (io) "General purpose I/O.", 49 C6, C^6 (io) "General purpose I/O.", 50 C7, C^7 (io) "General purpose I/O.", 53 C8, C^8 (io) "General purpose I/O.", 54 C9, C^9 (io) "General purpose I/O.", 55 C10, C^10 (io) "General purpose I/O.", 56 C11, C^11 (io) "General purpose I/O.", 58 C12, C^12 (io) "General purpose I/O.", 59 C13, C^13 (io) "General purpose I/O.", 60 C14, C^14 (io) "General purpose I/O.", 61 C15, C^15 (io) "General purpose I/O.", 64 D15, D^15 (io) "General purpose I/O.", 65 D14, D^14 (io) "General purpose I/O.", 66 D13, D^13 (io) "General purpose I/O.", 67 D12, D^12 (io) "General purpose I/O.", 69 D11, D^11 (io) "General purpose I/O.", 70 D10, D^10 (io) "General purpose I/O.", 71 D9, D^9 (io) "General purpose I/O.", 72 D8, D^8 (io) "General purpose I/O.", 78 D7, D^7 (io) "General purpose I/O.", 79 D6, D^6 (io) "General purpose I/O.", 80 D5, D^5 (io) "General purpose I/O.", 81 D4, D^4 (io) "General purpose I/O.", 84 D3, D^3 (io) "General purpose I/O.", 85 D2, D^2 (io) "General purpose I/O.", 86 D1, D^1 (io) "General purpose I/O.", 87 D0/GOE1, D^0 (io) "Either Global Output Enable Input or general I/O."
part C pins: 38 CLK1/I (in) "Either CLK input or input.", 39 CLK2/I (in) "Either CLK input or input.", 88 CLK3/I (in) "Either CLK input or input.", 89 CLK0/I (in) "Either CLK input or input."
part D pins: 2 TDI (in) "Test Data Input. Loads data into device using 1149.1 state machine.", 24 TCK (in) "Test Clock Input for 1149.1 state machine.", 52 TMS (in) "Test Mode Select Input to control 1149.1 state machine.", 74 TDO (out) "Test Data Output. Shifts data out of device using 1149.1."
part E pins: 13 VCCO (Bank0) (power) "Power supply pin for I/O bank.", 25 VCC (power) "Power supply for logic core and JTAG port.", 33 VCCO (Bank0) (power) "Power supply pin for I/O bank.", 40 VCC (power) "Power supply for logic core and JTAG port.", 45 VCCO (Bank1) (power) "Power supply pin for I/O bank.", 63 VCCO (Bank1) (power) "Power supply pin for I/O bank.", 75 VCC (power) "Power supply for logic core and JTAG port.", 83 VCCO (Bank1) (power) "Power supply pin for I/O bank.", 90 VCC (power) "Power supply for logic core and JTAG port.", 95 VCCO (Bank0) (power) "Power supply pin for I/O bank."
part F pins: 1 GND (power) "Ground", 7 GND (Bank0) (power) "I/O Ground", 18 GND (Bank0) (power) "I/O Ground", 26 GND (power) "Ground", 32 GND (Bank0) (power) "I/O Ground", 46 GND (Bank1) (power) "I/O Ground", 51 GND (power) "Ground", 57 GND (Bank1) (power) "I/O Ground", 68 GND (Bank1) (power) "I/O Ground", 76 GND (power) "Ground", 82 GND (Bank1) (power) "I/O Ground", 96 GND (Bank0) (power) "I/O Ground"
part G pins: 12 I (in) "Input Signal Pin.", 23 I (in) "Input Signal Pin.", 27 I (in) "Input Signal Pin.", 62 I (in) "Input Signal Pin.", 73 I (in) "Input Signal Pin.", 77 I (in) "Input Signal Pin."
part A text: BANK 0
part B text: BANK 1

## LC4064B-10TN44I
designator U?
ispMACH 4064 SuperFAST High Density PLD, 2.5 V, 30 User I/Os, 44-Pin TQFP, 10 ns, Industrial Grade, Pb-Free; DatasheetVersion: ver22.3, Mar-2007; PackageVersion: ver01.2 Feb-2007; PackageReference: TQFP44(1mm); PackageDescription: 44-Pin Thin Quad Flat Pack 1.0 mm Thick (TQFP44); ComponentLink1Description: Manufacturer URL; ComponentLink1URL: http://www.latticesemi.com/; ComponentLink2Description: Datasheet; ComponentLink2URL: http://www.latticesemi.com/dynamic/view_document.cfm?document_id=3646
footprint TQFP44(1mm)_N (Thin QFP, 44-Leads, Body 10x10mm, Pitch 0.8mm, IPC Medium Density)
footprint TQFP44(1mm)_L (Thin QFP, 44-Leads, Body 10x10mm, Pitch 0.8mm, IPC High Density)
footprint TQFP44(1mm)_M (Thin QFP, 44-Leads, Body 10x10mm, Pitch 0.8mm, IPC Low Density)
part A pins: 2 A10, A^5 (io) "General purpose I/O.", 3 A12, A^6 (io) "General purpose I/O.", 4 A14, A^7 (io) "General purpose I/O.", 7 B0, B^0 (io) "General purpose I/O.", 8 B2, B^1 (io) "General purpose I/O.", 9 B4, B^2 (io) "General purpose I/O.", 13 B8, B^4 (io) "General purpose I/O.", 14 B10, B^5 (io) "General purpose I/O.", 15 B12, B^6 (io) "General purpose I/O.", 16 B14, B^7 (io) "General purpose I/O.", 40 A0/GOE0, A^0 (io) "Either Global Output Enable Input or general I/O.", 41 A2, A^1 (io) "General purpose I/O.", 42 A4, A^2 (io) "General purpose I/O.", 43 A6, A^3 (io) "General purpose I/O.", 44 A8, A^4 (io) "General purpose I/O."
part B pins: 18 C0, C^0 (io) "General purpose I/O.", 19 C2, C^1 (io) "General purpose I/O.", 20 C4, C^2 (io) "General purpose I/O.", 21 C6, C^3 (io) "General purpose I/O.", 22 C8, C^4 (io) "General purpose I/O.", 24 C10, C^5 (io) "General purpose I/O.", 25 C12, C^6 (io) "General purpose I/O.", 26 C14, C^7 (io) "General purpose I/O.", 29 D0, D^0 (io) "General purpose I/O.", 30 D2, D^1 (io) "General purpose I/O.", 31 D4, D^2 (io) "General purpose I/O.", 35 D8, D^4 (io) "General purpose I/O.", 36 D10, D^5 (io) "General purpose I/O.", 37 D12, D^6 (io) "General purpose I/O.", 38 D14/GOE1, D^7 (io) "Either Global Output Enable Input or general I/O."
part C pins: 17 CLK2/I (in) "Either CLK input or input.", 39 CLK0/I (in) "Either CLK input or input."
part D pins: 1 TDI (in) "Test Data Input. Loads data into device using 1149.1 state machine.", 10 TCK (in) "Test Clock Input for 1149.1 state machine.", 23 TMS (in) "Test Mode Select Input to control 1149.1 state machine.", 32 TDO (out) "Test Data Output. Shifts data out of device using 1149.1."
part E pins: 6 VCCO (Bank0) (power) "Power supply pin for I/O bank.", 11 VCC (power) "Power supply for logic core and JTAG port.", 28 VCCO (Bank1) (power) "Power supply pin for I/O bank.", 33 VCC (power) "Power supply for logic core and JTAG port."
part F pins: 5 GND (Bank0) (power) "I/O Ground", 12 GND (power) "Ground", 27 GND (Bank1) (power) "I/O Ground", 34 GND (power) "Ground"
part A text: BANK 0
part B text: BANK 1

## LC4064B-10TN48I
designator U?
ispMACH 4064 SuperFAST High Density PLD, 2.5 V, 32 User I/Os, 48-Pin TQFP, 10 ns, Industrial Grade, Pb-Free; DatasheetVersion: ver22.3, Mar-2007; PackageVersion: ver02.6, Nov-2010; PackageReference: TQFP48(1mm); PackageDescription: 48-Pin Thin Quad Flat Pack 1.0 mm Thick (TQFP48); ComponentLink1Description: Manufacturer URL; ComponentLink1URL: http://www.latticesemi.com/; ComponentLink2Description: Datasheet; ComponentLink2URL: http://www.latticesemi.com/dynamic/view_document.cfm?document_id=3646
footprint TQFP48(1mm)_N (Thin QFP, 48-Leads, Body 7x7mm, Pitch 0.5mm, IPC Medium Density)
footprint TQFP48(1mm)_L (Thin QFP, 48-Leads, Body 7x7mm, Pitch 0.5mm, IPC High Density)
footprint TQFP48(1mm)_M (Thin QFP, 48-Leads, Body 7x7mm, Pitch 0.5mm, IPC Low Density)
part A pins: 2 A10, A^5 (io) "General purpose I/O.", 3 A12, A^6 (io) "General purpose I/O.", 4 A14, A^7 (io) "General purpose I/O.", 7 B0, B^0 (io) "General purpose I/O.", 8 B2, B^1 (io) "General purpose I/O.", 9 B4, B^2 (io) "General purpose I/O.", 10 B6, B^3 (io) "General purpose I/O.", 14 B8, B^4 (io) "General purpose I/O.", 15 B10, B^5 (io) "General purpose I/O.", 16 B12, B^6 (io) "General purpose I/O.", 17 B14, B^7 (io) "General purpose I/O.", 44 A0/GOE0, A^0 (io) "Either Global Output Enable Input or general I/O.", 45 A2, A^1 (io) "General purpose I/O.", 46 A4, A^2 (io) "General purpose I/O.", 47 A6, A^3 (io) "General purpose I/O.", 48 A8, A^4 (io) "General purpose I/O."
part B pins: 20 C0, C^0 (io) "General purpose I/O.", 21 C2, C^1 (io) "General purpose I/O.", 22 C4, C^2 (io) "General purpose I/O.", 23 C6, C^3 (io) "General purpose I/O.", 24 C8, C^4 (io) "General purpose I/O.", 26 C10, C^5 (io) "General purpose I/O.", 27 C12, C^6 (io) "General purpose I/O.", 28 C14, C^7 (io) "General purpose I/O.", 31 D0, D^0 (io) "General purpose I/O.", 32 D2, D^1 (io) "General purpose I/O.", 33 D4, D^2 (io) "General purpose I/O.", 34 D6, D^3 (io) "General purpose I/O.", 38 D8, D^4 (io) "General purpose I/O.", 39 D10, D^5 (io) "General purpose I/O.", 40 D12, D^6 (io) "General purpose I/O.", 41 D14/GOE1, D^7 (io) "Either Global Output Enable Input or general I/O."
part C pins: 18 CLK1/I (in) "Either CLK input or input.", 19 CLK2/I (in) "Either CLK input or input.", 42 CLK3/I (in) "Either CLK input or input.", 43 CLK0/I (in) "Either CLK input or input."
part D pins: 1 TDI (in) "Test Data Input. Loads data into device using 1149.1 state machine.", 11 TCK (in) "Test Clock Input for 1149.1 state machine.", 25 TMS (in) "Test Mode Select Input to control 1149.1 state machine.", 35 TDO (out) "Test Data Output. Shifts data out of device using 1149.1."
part E pins: 6 VCCO (Bank0) (power) "Power supply pin for I/O bank.", 12 VCC (power) "Power supply for logic core and JTAG port.", 30 VCCO (Bank1) (power) "Power supply pin for I/O bank.", 36 VCC (power) "Power supply for logic core and JTAG port."
part F pins: 5 GND (Bank0) (power) "I/O Ground", 13 GND (power) "Ground", 29 GND (Bank1) (power) "I/O Ground", 37 GND (power) "Ground"
part A text: BANK 0
part B text: BANK 1

## LC4064B-10TN100I
designator U?
ispMACH 4064 SuperFAST High Density PLD, 2.5 V, 64 User I/Os, 100-Pin TQFP, 10 ns, Industrial Grade, Pb-Free; DatasheetVersion: ver22.3, Mar-2007; PackageVersion: ver02.8, Jul-2011; PackageReference: TQFP100; PackageDescription: 100-Pin Thin Quad Flat Pack (TQFP100); Code_JEDEC: MS-026-BED; ComponentLink1Description: Manufacturer URL; ComponentLink1URL: http://www.latticesemi.com/; ComponentLink2Description: Datasheet; ComponentLink2URL: http://www.latticesemi.com/dynamic/view_document.cfm?document_id=3646
footprint TQFP100_N (Thin QFP, 100-Leads, Body 14x14mm, Pitch 0.5mm, IPC Medium Density)
footprint TQFP100_L (Thin QFP, 100-Leads, Body 14x14mm, Pitch 0.5mm, IPC High Density)
footprint TQFP100_M (Thin QFP, 100-Leads, Body 14x14mm, Pitch 0.5mm, IPC Low Density)
part A pins: 3 A8, A^8 (io) "General purpose I/O.", 4 A9, A^9 (io) "General purpose I/O.", 5 A10, A^10 (io) "General purpose I/O.", 6 A11, A^11 (io) "General purpose I/O.", 8 A12, A^12 (io) "General purpose I/O.", 9 A13, A^13 (io) "General purpose I/O.", 10 A14, A^14 (io) "General purpose I/O.", 11 A15, A^15 (io) "General purpose I/O.", 14 B15, B^15 (io) "General purpose I/O.", 15 B14, B^14 (io) "General purpose I/O.", 16 B13, B^13 (io) "General purpose I/O.", 17 B12, B^12 (io) "General purpose I/O.", 19 B11, B^11 (io) "General purpose I/O.", 20 B10, B^10 (io) "General purpose I/O.", 21 B9, B^9 (io) "General purpose I/O.", 22 B8, B^8 (io) "General purpose I/O.", 28 B7, B^7 (io) "General purpose I/O.", 29 B6, B^6 (io) "General purpose I/O.", 30 B5, B^5 (io) "General purpose I/O.", 31 B4, B^4 (io) "General purpose I/O.", 34 B3, B^3 (io) "General purpose I/O.", 35 B2, B^2 (io) "General purpose I/O.", 36 B1, B^1 (io) "General purpose I/O.", 37 B0, B^0 (io) "General purpose I/O.", 91 A0/GOE0, A^0 (io) "Either Global Output Enable Input or general I/O.", 92 A1, A^1 (io) "General purpose I/O.", 93 A2, A^2 (io) "General purpose I/O.", 94 A3, A^3 (io) "General purpose I/O.", 97 A4, A^4 (io) "General purpose I/O.", 98 A5, A^5 (io) "General purpose I/O.", 99 A6, A^6 (io) "General purpose I/O.", 100 A7, A^7 (io) "General purpose I/O."
part B pins: 41 C0, C^0 (io) "General purpose I/O.", 42 C1, C^1 (io) "General purpose I/O.", 43 C2, C^2 (io) "General purpose I/O.", 44 C3, C^3 (io) "General purpose I/O.", 47 C4, C^4 (io) "General purpose I/O.", 48 C5, C^5 (io) "General purpose I/O.", 49 C6, C^6 (io) "General purpose I/O.", 50 C7, C^7 (io) "General purpose I/O.", 53 C8, C^8 (io) "General purpose I/O.", 54 C9, C^9 (io) "General purpose I/O.", 55 C10, C^10 (io) "General purpose I/O.", 56 C11, C^11 (io) "General purpose I/O.", 58 C12, C^12 (io) "General purpose I/O.", 59 C13, C^13 (io) "General purpose I/O.", 60 C14, C^14 (io) "General purpose I/O.", 61 C15, C^15 (io) "General purpose I/O.", 64 D15, D^15 (io) "General purpose I/O.", 65 D14, D^14 (io) "General purpose I/O.", 66 D13, D^13 (io) "General purpose I/O.", 67 D12, D^12 (io) "General purpose I/O.", 69 D11, D^11 (io) "General purpose I/O.", 70 D10, D^10 (io) "General purpose I/O.", 71 D9, D^9 (io) "General purpose I/O.", 72 D8, D^8 (io) "General purpose I/O.", 78 D7, D^7 (io) "General purpose I/O.", 79 D6, D^6 (io) "General purpose I/O.", 80 D5, D^5 (io) "General purpose I/O.", 81 D4, D^4 (io) "General purpose I/O.", 84 D3, D^3 (io) "General purpose I/O.", 85 D2, D^2 (io) "General purpose I/O.", 86 D1, D^1 (io) "General purpose I/O.", 87 D0/GOE1, D^0 (io) "Either Global Output Enable Input or general I/O."
part C pins: 38 CLK1/I (in) "Either CLK input or input.", 39 CLK2/I (in) "Either CLK input or input.", 88 CLK3/I (in) "Either CLK input or input.", 89 CLK0/I (in) "Either CLK input or input."
part D pins: 2 TDI (in) "Test Data Input. Loads data into device using 1149.1 state machine.", 24 TCK (in) "Test Clock Input for 1149.1 state machine.", 52 TMS (in) "Test Mode Select Input to control 1149.1 state machine.", 74 TDO (out) "Test Data Output. Shifts data out of device using 1149.1."
part E pins: 13 VCCO (Bank0) (power) "Power supply pin for I/O bank.", 25 VCC (power) "Power supply for logic core and JTAG port.", 33 VCCO (Bank0) (power) "Power supply pin for I/O bank.", 40 VCC (power) "Power supply for logic core and JTAG port.", 45 VCCO (Bank1) (power) "Power supply pin for I/O bank.", 63 VCCO (Bank1) (power) "Power supply pin for I/O bank.", 75 VCC (power) "Power supply for logic core and JTAG port.", 83 VCCO (Bank1) (power) "Power supply pin for I/O bank.", 90 VCC (power) "Power supply for logic core and JTAG port.", 95 VCCO (Bank0) (power) "Power supply pin for I/O bank."
part F pins: 1 GND (power) "Ground", 7 GND (Bank0) (power) "I/O Ground", 18 GND (Bank0) (power) "I/O Ground", 26 GND (power) "Ground", 32 GND (Bank0) (power) "I/O Ground", 46 GND (Bank1) (power) "I/O Ground", 51 GND (power) "Ground", 57 GND (Bank1) (power) "I/O Ground", 68 GND (Bank1) (power) "I/O Ground", 76 GND (power) "Ground", 82 GND (Bank1) (power) "I/O Ground", 96 GND (Bank0) (power) "I/O Ground"
part G pins: 12 I (in) "Input Signal Pin.", 23 I (in) "Input Signal Pin.", 27 I (in) "Input Signal Pin.", 62 I (in) "Input Signal Pin.", 73 I (in) "Input Signal Pin.", 77 I (in) "Input Signal Pin."
part A text: BANK 0
part B text: BANK 1

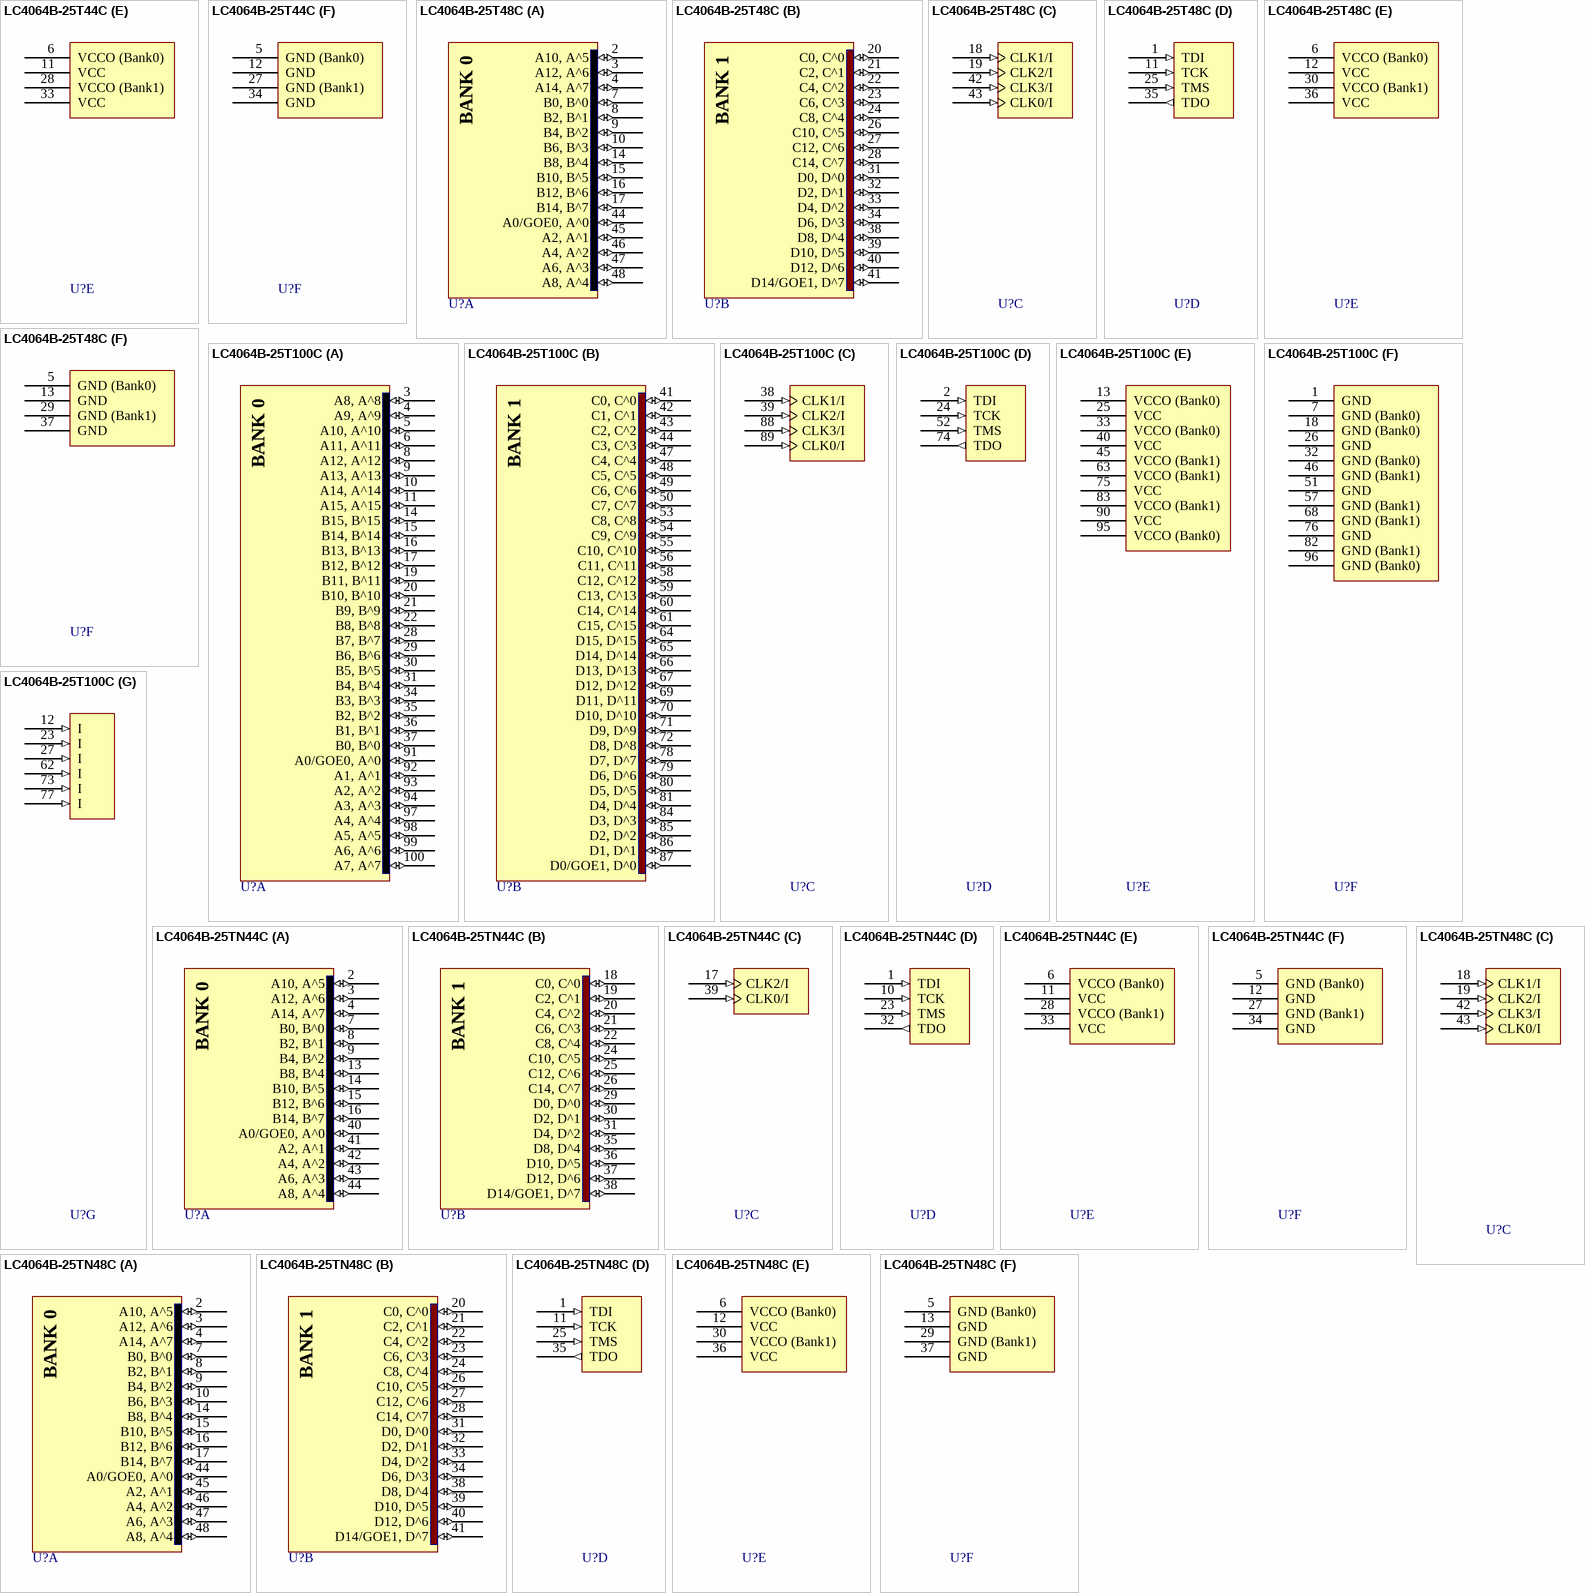
[diagram p10: symbols LC4064B-25T44C to LC4064B-25TN48C]

## LC4064B-25T44C
designator U?
ispMACH 4064 SuperFAST High Density PLD, 2.5 V, 30 User I/Os, 44-Pin TQFP, 2.5 ns, Commercial Grade; DatasheetVersion: ver22.3, Mar-2007; PackageVersion: ver01.2 Feb-2007; PackageReference: TQFP44(1mm); PackageDescription: 44-Pin Thin Quad Flat Pack 1.0 mm Thick (TQFP44); ComponentLink1Description: Manufacturer URL; ComponentLink1URL: http://www.latticesemi.com/; ComponentLink2Description: Datasheet; ComponentLink2URL: http://www.latticesemi.com/dynamic/view_document.cfm?document_id=3646
footprint TQFP44(1mm)_N (Thin QFP, 44-Leads, Body 10x10mm, Pitch 0.8mm, IPC Medium Density)
footprint TQFP44(1mm)_L (Thin QFP, 44-Leads, Body 10x10mm, Pitch 0.8mm, IPC High Density)
footprint TQFP44(1mm)_M (Thin QFP, 44-Leads, Body 10x10mm, Pitch 0.8mm, IPC Low Density)
part A pins: 2 A10, A^5 (io) "General purpose I/O.", 3 A12, A^6 (io) "General purpose I/O.", 4 A14, A^7 (io) "General purpose I/O.", 7 B0, B^0 (io) "General purpose I/O.", 8 B2, B^1 (io) "General purpose I/O.", 9 B4, B^2 (io) "General purpose I/O.", 13 B8, B^4 (io) "General purpose I/O.", 14 B10, B^5 (io) "General purpose I/O.", 15 B12, B^6 (io) "General purpose I/O.", 16 B14, B^7 (io) "General purpose I/O.", 40 A0/GOE0, A^0 (io) "Either Global Output Enable Input or general I/O.", 41 A2, A^1 (io) "General purpose I/O.", 42 A4, A^2 (io) "General purpose I/O.", 43 A6, A^3 (io) "General purpose I/O.", 44 A8, A^4 (io) "General purpose I/O."
part B pins: 18 C0, C^0 (io) "General purpose I/O.", 19 C2, C^1 (io) "General purpose I/O.", 20 C4, C^2 (io) "General purpose I/O.", 21 C6, C^3 (io) "General purpose I/O.", 22 C8, C^4 (io) "General purpose I/O.", 24 C10, C^5 (io) "General purpose I/O.", 25 C12, C^6 (io) "General purpose I/O.", 26 C14, C^7 (io) "General purpose I/O.", 29 D0, D^0 (io) "General purpose I/O.", 30 D2, D^1 (io) "General purpose I/O.", 31 D4, D^2 (io) "General purpose I/O.", 35 D8, D^4 (io) "General purpose I/O.", 36 D10, D^5 (io) "General purpose I/O.", 37 D12, D^6 (io) "General purpose I/O.", 38 D14/GOE1, D^7 (io) "Either Global Output Enable Input or general I/O."
part C pins: 17 CLK2/I (in) "Either CLK input or input.", 39 CLK0/I (in) "Either CLK input or input."
part D pins: 1 TDI (in) "Test Data Input. Loads data into device using 1149.1 state machine.", 10 TCK (in) "Test Clock Input for 1149.1 state machine.", 23 TMS (in) "Test Mode Select Input to control 1149.1 state machine.", 32 TDO (out) "Test Data Output. Shifts data out of device using 1149.1."
part E pins: 6 VCCO (Bank0) (power) "Power supply pin for I/O bank.", 11 VCC (power) "Power supply for logic core and JTAG port.", 28 VCCO (Bank1) (power) "Power supply pin for I/O bank.", 33 VCC (power) "Power supply for logic core and JTAG port."
part F pins: 5 GND (Bank0) (power) "I/O Ground", 12 GND (power) "Ground", 27 GND (Bank1) (power) "I/O Ground", 34 GND (power) "Ground"
part A text: BANK 0
part B text: BANK 1

## LC4064B-25T48C
designator U?
ispMACH 4064 SuperFAST High Density PLD, 2.5 V, 32 User I/Os, 48-Pin TQFP, 2.5 ns, Commercial Grade; DatasheetVersion: ver22.3, Mar-2007; PackageVersion: ver02.6, Nov-2010; PackageReference: TQFP48(1mm); PackageDescription: 48-Pin Thin Quad Flat Pack 1.0 mm Thick (TQFP48); ComponentLink1Description: Manufacturer URL; ComponentLink1URL: http://www.latticesemi.com/; ComponentLink2Description: Datasheet; ComponentLink2URL: http://www.latticesemi.com/dynamic/view_document.cfm?document_id=3646
footprint TQFP48(1mm)_N (Thin QFP, 48-Leads, Body 7x7mm, Pitch 0.5mm, IPC Medium Density)
footprint TQFP48(1mm)_L (Thin QFP, 48-Leads, Body 7x7mm, Pitch 0.5mm, IPC High Density)
footprint TQFP48(1mm)_M (Thin QFP, 48-Leads, Body 7x7mm, Pitch 0.5mm, IPC Low Density)
part A pins: 2 A10, A^5 (io) "General purpose I/O.", 3 A12, A^6 (io) "General purpose I/O.", 4 A14, A^7 (io) "General purpose I/O.", 7 B0, B^0 (io) "General purpose I/O.", 8 B2, B^1 (io) "General purpose I/O.", 9 B4, B^2 (io) "General purpose I/O.", 10 B6, B^3 (io) "General purpose I/O.", 14 B8, B^4 (io) "General purpose I/O.", 15 B10, B^5 (io) "General purpose I/O.", 16 B12, B^6 (io) "General purpose I/O.", 17 B14, B^7 (io) "General purpose I/O.", 44 A0/GOE0, A^0 (io) "Either Global Output Enable Input or general I/O.", 45 A2, A^1 (io) "General purpose I/O.", 46 A4, A^2 (io) "General purpose I/O.", 47 A6, A^3 (io) "General purpose I/O.", 48 A8, A^4 (io) "General purpose I/O."
part B pins: 20 C0, C^0 (io) "General purpose I/O.", 21 C2, C^1 (io) "General purpose I/O.", 22 C4, C^2 (io) "General purpose I/O.", 23 C6, C^3 (io) "General purpose I/O.", 24 C8, C^4 (io) "General purpose I/O.", 26 C10, C^5 (io) "General purpose I/O.", 27 C12, C^6 (io) "General purpose I/O.", 28 C14, C^7 (io) "General purpose I/O.", 31 D0, D^0 (io) "General purpose I/O.", 32 D2, D^1 (io) "General purpose I/O.", 33 D4, D^2 (io) "General purpose I/O.", 34 D6, D^3 (io) "General purpose I/O.", 38 D8, D^4 (io) "General purpose I/O.", 39 D10, D^5 (io) "General purpose I/O.", 40 D12, D^6 (io) "General purpose I/O.", 41 D14/GOE1, D^7 (io) "Either Global Output Enable Input or general I/O."
part C pins: 18 CLK1/I (in) "Either CLK input or input.", 19 CLK2/I (in) "Either CLK input or input.", 42 CLK3/I (in) "Either CLK input or input.", 43 CLK0/I (in) "Either CLK input or input."
part D pins: 1 TDI (in) "Test Data Input. Loads data into device using 1149.1 state machine.", 11 TCK (in) "Test Clock Input for 1149.1 state machine.", 25 TMS (in) "Test Mode Select Input to control 1149.1 state machine.", 35 TDO (out) "Test Data Output. Shifts data out of device using 1149.1."
part E pins: 6 VCCO (Bank0) (power) "Power supply pin for I/O bank.", 12 VCC (power) "Power supply for logic core and JTAG port.", 30 VCCO (Bank1) (power) "Power supply pin for I/O bank.", 36 VCC (power) "Power supply for logic core and JTAG port."
part F pins: 5 GND (Bank0) (power) "I/O Ground", 13 GND (power) "Ground", 29 GND (Bank1) (power) "I/O Ground", 37 GND (power) "Ground"
part A text: BANK 0
part B text: BANK 1